# Altium footprint library PcbLib1.PcbLib: 2 footprints
Each footprint in its own frame and in the unit in brackets; x right, y up, seen from the top. Pads: shape width x height; smd on the part's side, far side on the other; paste and mask are expansions set on the pad; w line width, h text height; cw(c..) or ccw(c..) is an arc to the next point about the centre after c.
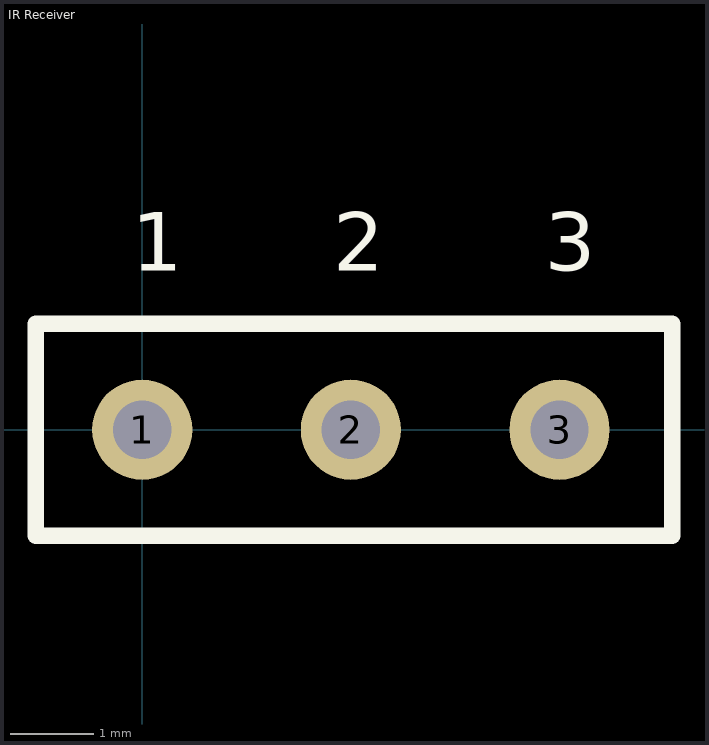
[diagram p0: the footprints below, top view; thin cyan lines are the x and y axes]

## IR Receiver [mm]
pads (3):
  round 1.2 hole 0.7: 1(0,0) 2(2.5,0) 3(5,0)
Top Overlay:
  lines w0.2: -1.275,-1.27 6.35,-1.27 6.35,1.27 -1.275,1.27 -1.275,-1.27
  text "1" at -0.127,1.905 h0.7
  text "2" at 2.286,1.905 h0.7
  text "3" at 4.826,1.905 h0.7

## PCBComponent_1 [mm]